# EAGLE library part IC_ACCEL_ADXL345 (library homemade-hardware)
ADXL345 <https://www.digikey.com/product-detail/en/analog-devices-inc/ADXL345BCCZ-RL7/ADXL345BCCZ-RL7CT-ND/2038984> - Digital 3-Axis Accelerometer (I2C/SPI)
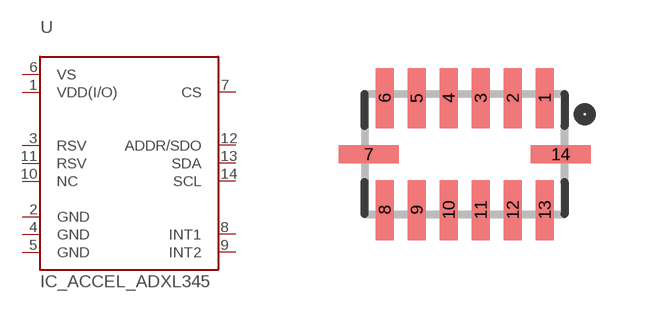
[diagram p23: symbol with the pads of LGA14; footprint LGA14]

Designator prefix U

## IC_ACCEL_ADXL345  [LGA14]
1  VDD(I/O)
2  GND
3  RSV
4  GND
5  GND
6  VS
7  CS
8  INT1
9  INT2
10  NC
11  RSV
12  ADDR/SDO
13  SDA
14  SCL

## Footprint LGA14 (pad centres in mm)
smd 0.45 x 1.5: 1 2,1.4; 2 1.2,1.4; 3 0.4,1.4; 4 -0.4,1.4; 5 -1.2,1.4; 6 -2,1.4; 8 -2,-1.4; 9 -1.2,-1.4; 10 -0.4,-1.4; 11 0.4,-1.4; 12 1.2,-1.4; 13 2,-1.4
smd 1.5 x 0.45: 7 -2.4,0; 14 2.4,0